# EAGLE library part 10M08SCE144C8G (library SummerCart64)
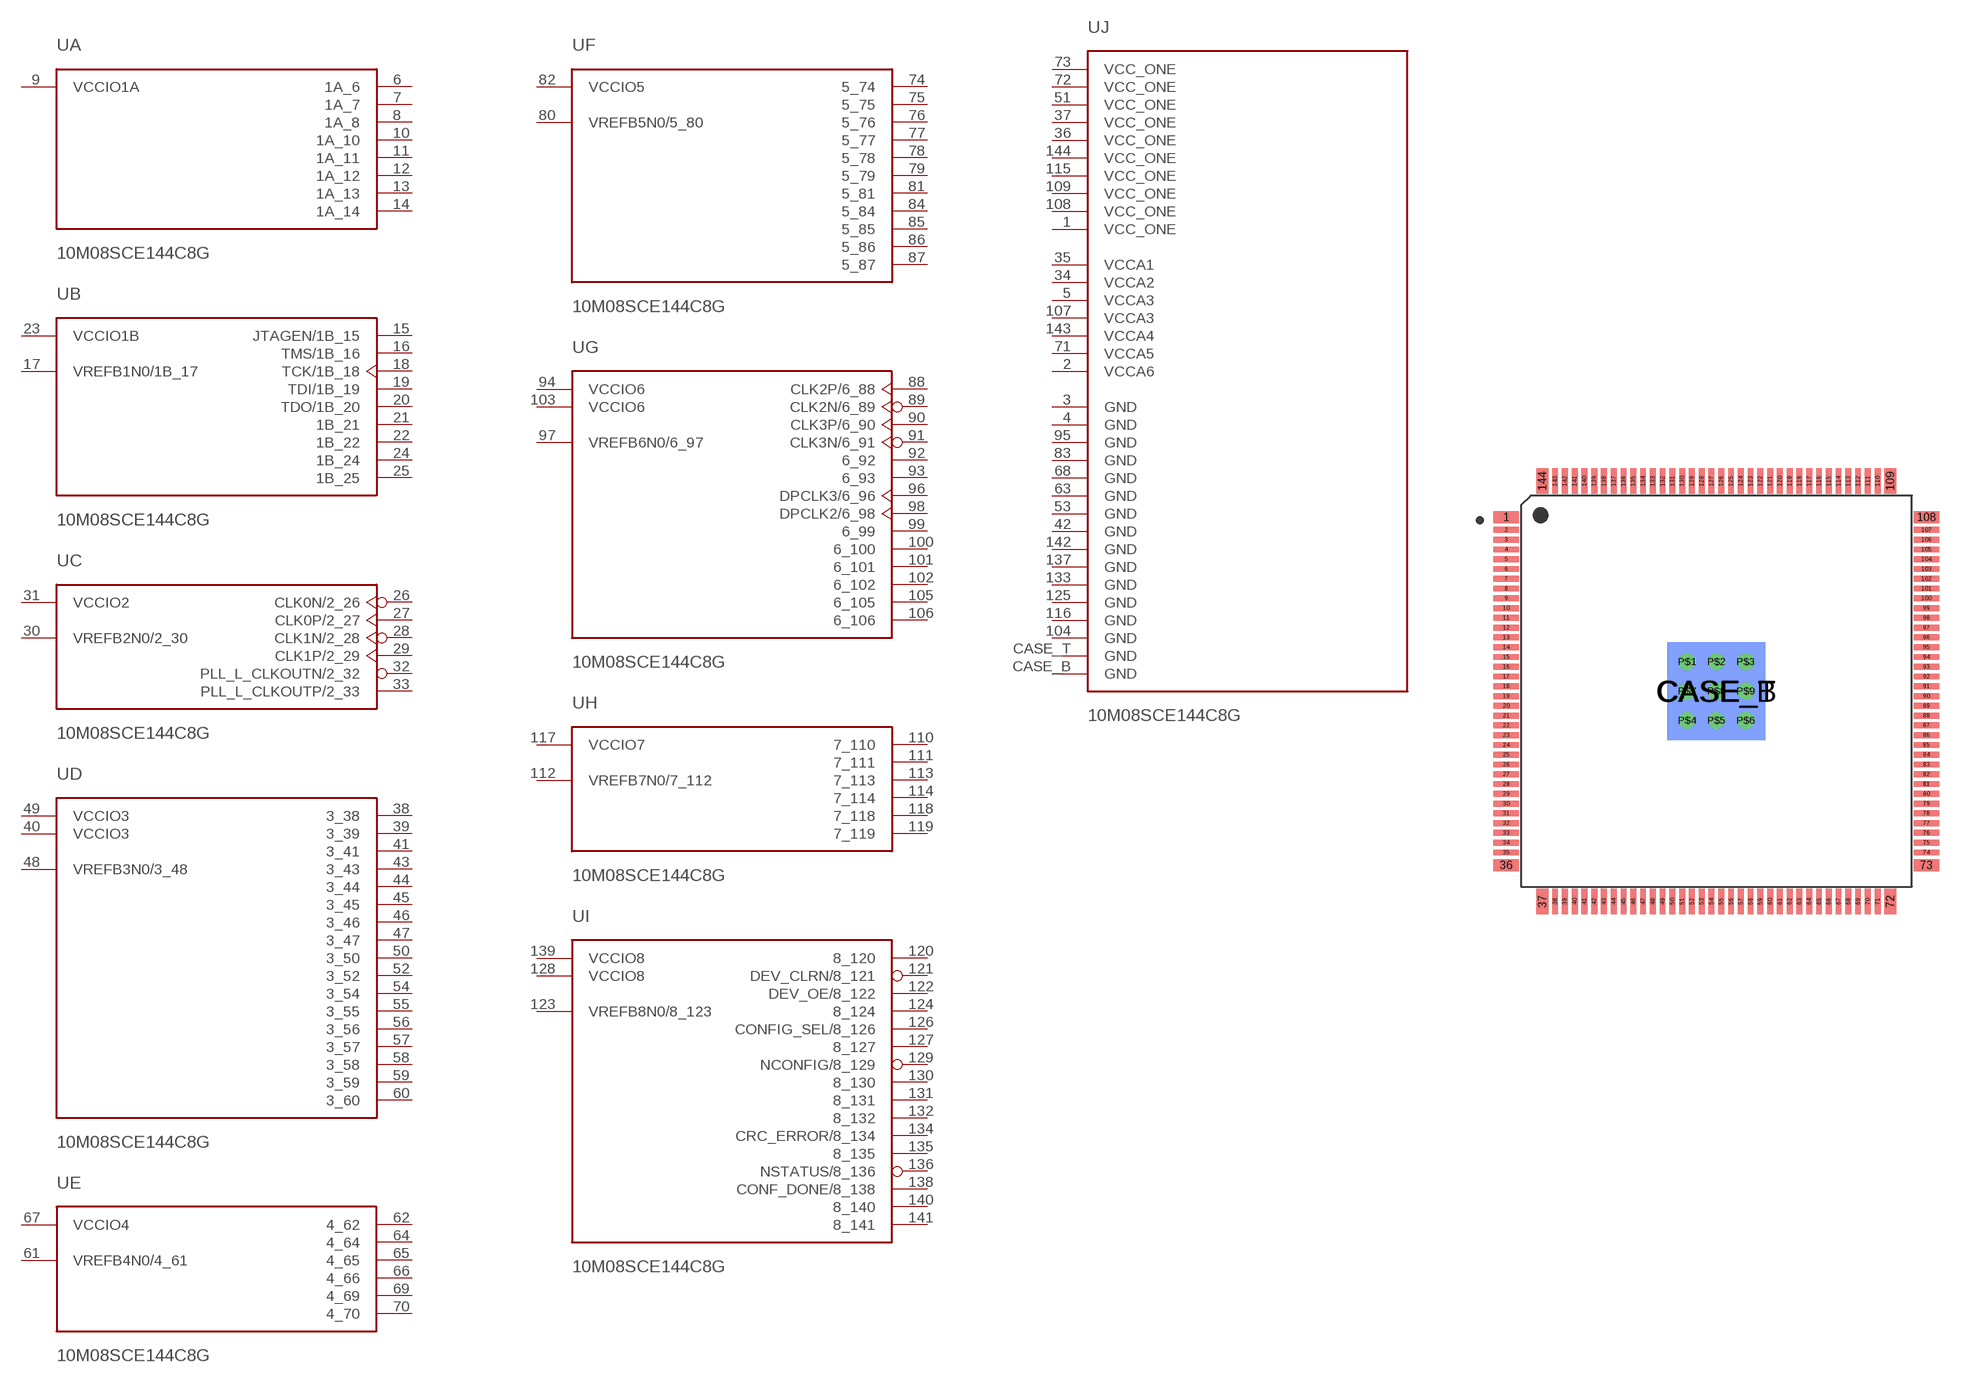
[diagram p0: symbol with the pads of EQFP144; footprint EQFP144]

Designator prefix U; gates A=MAX10EQFP144_BANK_1A B=MAX10EQFP144_BANK_1B C=MAX10EQFP144_BANK_2 D=MAX10EQFP144_BANK_3 E=MAX10EQFP144_BANK_4 F=MAX10EQFP144_BANK_5 G=MAX10EQFP144_BANK_6 H=MAX10EQFP144_BANK_7 I=MAX10EQFP144_BANK_8 J=MAX10EQFP144_PWR

## 10M08SCE144C8G  [EQFP144]
1  J:VCC_ONE  pwr
2  J:VCCA6  pwr
3  J:GND  pwr
4  J:GND  pwr
5  J:VCCA3  pwr
6  A:1A_6
7  A:1A_7
8  A:1A_8
9  A:VCCIO1A  pwr
10  A:1A_10
11  A:1A_11
12  A:1A_12
13  A:1A_13
14  A:1A_14
15  B:JTAGEN/1B_15
16  B:TMS/1B_16
17  B:VREFB1N0/1B_17
18  B:TCK/1B_18
19  B:TDI/1B_19
20  B:TDO/1B_20
21  B:1B_21
22  B:1B_22
23  B:VCCIO1B  pwr
24  B:1B_24
25  B:1B_25
26  C:CLK0N/2_26
27  C:CLK0P/2_27
28  C:CLK1N/2_28
29  C:CLK1P/2_29
30  C:VREFB2N0/2_30
31  C:VCCIO2  pwr
32  C:PLL_L_CLKOUTN/2_32
33  C:PLL_L_CLKOUTP/2_33
34  J:VCCA2  pwr
35  J:VCCA1  pwr
36  J:VCC_ONE  pwr
37  J:VCC_ONE  pwr
38  D:3_38
39  D:3_39
40  D:VCCIO3  pwr
41  D:3_41
42  J:GND  pwr
43  D:3_43
44  D:3_44
45  D:3_45
46  D:3_46
47  D:3_47
48  D:VREFB3N0/3_48
49  D:VCCIO3  pwr
50  D:3_50
51  J:VCC_ONE  pwr
52  D:3_52
53  J:GND  pwr
54  D:3_54
55  D:3_55
56  D:3_56
57  D:3_57
58  D:3_58
59  D:3_59
60  D:3_60
61  E:VREFB4N0/4_61
62  E:4_62
63  J:GND  pwr
64  E:4_64
65  E:4_65
66  E:4_66
67  E:VCCIO4  pwr
68  J:GND  pwr
69  E:4_69
70  E:4_70
71  J:VCCA5  pwr
72  J:VCC_ONE  pwr
73  J:VCC_ONE  pwr
74  F:5_74
75  F:5_75
76  F:5_76
77  F:5_77
78  F:5_78
79  F:5_79
80  F:VREFB5N0/5_80
81  F:5_81
82  F:VCCIO5  pwr
83  J:GND  pwr
84  F:5_84
85  F:5_85
86  F:5_86
87  F:5_87
88  G:CLK2P/6_88
89  G:CLK2N/6_89
90  G:CLK3P/6_90
91  G:CLK3N/6_91
92  G:6_92
93  G:6_93
94  G:VCCIO6  pwr
95  J:GND  pwr
96  G:DPCLK3/6_96
97  G:VREFB6N0/6_97
98  G:DPCLK2/6_98
99  G:6_99
100  G:6_100
101  G:6_101
102  G:6_102
103  G:VCCIO6  pwr
104  J:GND  pwr
105  G:6_105
106  G:6_106
107  J:VCCA3  pwr
108  J:VCC_ONE  pwr
109  J:VCC_ONE  pwr
110  H:7_110
111  H:7_111
112  H:VREFB7N0/7_112
113  H:7_113
114  H:7_114
115  J:VCC_ONE  pwr
116  J:GND  pwr
117  H:VCCIO7  pwr
118  H:7_118
119  H:7_119
120  I:8_120
121  I:DEV_CLRN/8_121
122  I:DEV_OE/8_122
123  I:VREFB8N0/8_123
124  I:8_124
125  J:GND  pwr
126  I:CONFIG_SEL/8_126
127  I:8_127
128  I:VCCIO8  pwr
129  I:NCONFIG/8_129  in
130  I:8_130
131  I:8_131
132  I:8_132
133  J:GND  pwr
134  I:CRC_ERROR/8_134
135  I:8_135
136  I:NSTATUS/8_136
137  J:GND  pwr
138  I:CONF_DONE/8_138
139  I:VCCIO8  pwr
140  I:8_140
141  I:8_141
142  J:GND  pwr
143  J:VCCA4  pwr
144  J:VCC_ONE  pwr
CASE_B  J:GND  pwr
CASE_T  J:GND  pwr

## Footprint EQFP144 (pad centres in mm)
smd 1.3 x 0.6: 1 -10.75,8.9; 36 -10.75,-8.9; 73 10.75,-8.9; 108 10.75,8.9
smd 1.3 x 0.3: 2 -10.75,8.25; 3 -10.75,7.75; 4 -10.75,7.25; 5 -10.75,6.75; 6 -10.75,6.25; 7 -10.75,5.75; 8 -10.75,5.25; 9 -10.75,4.75; 10 -10.75,4.25; 11 -10.75,3.75; 12 -10.75,3.25; 13 -10.75,2.75; 14 -10.75,2.25; 15 -10.75,1.75; 16 -10.75,1.25; 17 -10.75,0.75; 18 -10.75,0.25; 19 -10.75,-0.25; 20 -10.75,-0.75; 21 -10.75,-1.25; 22 -10.75,-1.75; 23 -10.75,-2.25; 24 -10.75,-2.75; 25 -10.75,-3.25; 26 -10.75,-3.75; 27 -10.75,-4.25; 28 -10.75,-4.75; 29 -10.75,-5.25; 30 -10.75,-5.75; 31 -10.75,-6.25; 32 -10.75,-6.75; 33 -10.75,-7.25; 34 -10.75,-7.75; 35 -10.75,-8.25; 74 10.75,-8.25; 75 10.75,-7.75; 76 10.75,-7.25; 77 10.75,-6.75; 78 10.75,-6.25; 79 10.75,-5.75; 80 10.75,-5.25; 81 10.75,-4.75; 82 10.75,-4.25; 83 10.75,-3.75; 84 10.75,-3.25; 85 10.75,-2.75; 86 10.75,-2.25; 87 10.75,-1.75; 88 10.75,-1.25; 89 10.75,-0.75; 90 10.75,-0.25; 91 10.75,0.25; 92 10.75,0.75; 93 10.75,1.25; 94 10.75,1.75; 95 10.75,2.25; 96 10.75,2.75; 97 10.75,3.25; 98 10.75,3.75; 99 10.75,4.25; 100 10.75,4.75; 101 10.75,5.25; 102 10.75,5.75; 103 10.75,6.25; 104 10.75,6.75; 105 10.75,7.25; 106 10.75,7.75; 107 10.75,8.25
smd 0.6 x 1.3: 37 -8.9,-10.75; 72 8.9,-10.75; 109 8.9,10.75; 144 -8.9,10.75
smd 0.3 x 1.3: 38 -8.25,-10.75; 39 -7.75,-10.75; 40 -7.25,-10.75; 41 -6.75,-10.75; 42 -6.25,-10.75; 43 -5.75,-10.75; 44 -5.25,-10.75; 45 -4.75,-10.75; 46 -4.25,-10.75; 47 -3.75,-10.75; 48 -3.25,-10.75; 49 -2.75,-10.75; 50 -2.25,-10.75; 51 -1.75,-10.75; 52 -1.25,-10.75; 53 -0.75,-10.75; 54 -0.25,-10.75; 55 0.25,-10.75; 56 0.75,-10.75; 57 1.25,-10.75; 58 1.75,-10.75; 59 2.25,-10.75; 60 2.75,-10.75; 61 3.25,-10.75; 62 3.75,-10.75; 63 4.25,-10.75; 64 4.75,-10.75; 65 5.25,-10.75; 66 5.75,-10.75; 67 6.25,-10.75; 68 6.75,-10.75; 69 7.25,-10.75; 70 7.75,-10.75; 71 8.25,-10.75; 110 8.25,10.75; 111 7.75,10.75; 112 7.25,10.75; 113 6.75,10.75; 114 6.25,10.75; 115 5.75,10.75; 116 5.25,10.75; 117 4.75,10.75; 118 4.25,10.75; 119 3.75,10.75; 120 3.25,10.75; 121 2.75,10.75; 122 2.25,10.75; 123 1.75,10.75; 124 1.25,10.75; 125 0.75,10.75; 126 0.25,10.75; 127 -0.25,10.75; 128 -0.75,10.75; 129 -1.25,10.75; 130 -1.75,10.75; 131 -2.25,10.75; 132 -2.75,10.75; 133 -3.25,10.75; 134 -3.75,10.75; 135 -4.25,10.75; 136 -4.75,10.75; 137 -5.25,10.75; 138 -5.75,10.75; 139 -6.25,10.75; 140 -6.75,10.75; 141 -7.25,10.75; 142 -7.75,10.75; 143 -8.25,10.75
smd 5 x 5 bottom: CASE_B 0,0
smd 5 x 5: CASE_T 0,0
drill 0.35: P$1 -1.5,1.5; P$2 0,1.5; P$3 1.5,1.5; P$4 -1.5,-1.5; P$5 0,-1.5; P$6 1.5,-1.5; P$7 -1.5,0; P$8 0,0; P$9 1.5,0